# Altium integrated library Analog Devices Operational Amplifiers.IntLib: 2102 symbols (part 4 of 70)
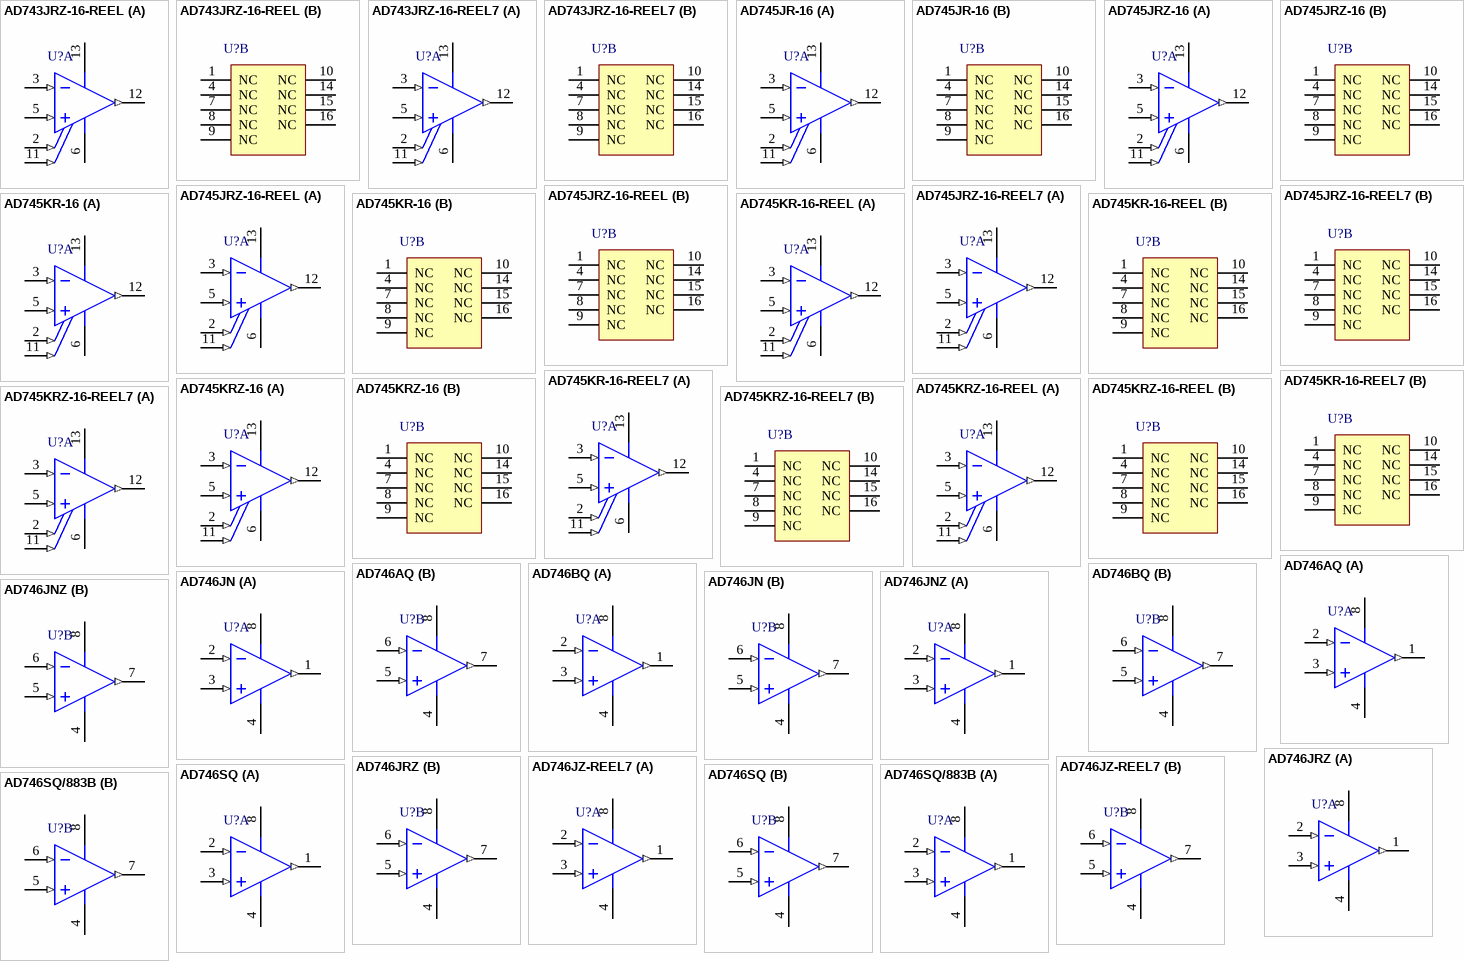
[diagram p117: symbols AD743JRZ-16-REEL to AD746SQ/883B]

## AD745KRZ-16-REEL7
designator U?
Single Channel Ultralow Noise Performance Operational Amplifier, 20 MHz BW, 12.5 V/us SR, Commercial, 16-pin SOIC (RW-16), Reel; Generic Part Number: AD745; Manufacturer: Analog Devices; PartNumber: AD745KRZ-16-REEL7; Amplifiers Per Package: 1; Input Bias Current: 150pA; Input Offset Voltage: 100uV; Iq/Amp: 10mA; Small Signal Bandwidth: 20MHz; V Span Max: 36V; V Span Min: 9.6V; DatasheetVersion: Rev. D; PackageVersion: 032707-B; PackageReference: RW-16; PackageDescription: 16-Pin Standard Small Outline Package, Body 10.3 x 7.5 mm, Pitch 1.27 mm; Supplier 1: Digi-Key; Supplier Part Number 1: AD745KRZ-16-REEL7-ND; Packing: Reel; Slew Rate: 12.5V/us; Mounting Technology: Surface Mount; Code_JEDEC: MS-013-AA; ComponentLink1Description: Manufacturer URL; ComponentLink1URL: http://www.analog.com/en/index.html; ComponentLink2Description: Datasheet; ComponentLink2URL: http://www.analog.com/static/imported-files/data_sheets/AD745.pdf; ComponentLink3Description: Package Specification; ComponentLink3URL: http://www.analog.com/static/imported-files/packages/PKG_PDF/SOIC_WIDE%20%28RW%29/RW_16.pdf
footprint ADI-RW-16_N (SOIC, 16-Leads, Body 10.3x7.5mm, Pitch 1.27mm,IPC Medium Density)
footprint ADI-RW-16_L (SOIC, 16-Leads, Body 10.3x7.5mm, Pitch 1.27mm, IPC High Density)
footprint ADI-RW-16_M (SOIC, 16-Leads, Body 10.3x7.5mm, Pitch 1.27mm, IPC Low Density)
part A pins: 2 OFFSET NULL (in), 3 -IN (in), 5 +IN (in), 6 -VS (power), 11 OFFSET NULL (in), 12 OUT (out), 13 +VS (power)
part B pins: 1 NC, 4 NC, 7 NC, 8 NC, 9 NC, 10 NC, 14 NC, 15 NC, 16 NC

## AD746AQ
designator U?
Double Channel Operational Amplifier, 13 MHz BW, 75 V/us SR, Industrial, 8-pin DIP (Q-8), Tube; Generic Part Number: AD746; Manufacturer: Analog Devices; PartNumber: AD746AQ; Amplifiers Per Package: 2; Input Bias Current: 110pA; Input Offset Voltage: 300uV; Iq/Amp: 4mA; Slew Rate: 75V/us; Small Signal Bandwidth: 13MHz; V Span Max: 36V; V Span Min: 9.6V; DatasheetVersion: Rev. B; PackageReference: Q-8; PackageDescription: 8-Pin Ceramic Dual In-Line Package, Row spacing 7.62 mm, Pitch 2.54 mm; Supplier 1: Digi-Key; Supplier Part Number 1: AD746AQ-ND; Supplier 2: Newark; Supplier Part Number 2: 66F4829; Packing: Tube; Mounting Technology: Through Hole; ComponentLink1Description: Manufacturer URL; ComponentLink1URL: http://www.analog.com/en/index.html; ComponentLink2Description: Datasheet; ComponentLink2URL: http://www.analog.com/static/imported-files/data_sheets/AD746.pdf; ComponentLink3Description: Package Specification; ComponentLink3URL: http://www.analog.com/static/imported-files/packages/3925655241313314758Q_8.pdf
footprint ADI-Q-8 (DIP, 8-Leads, Body 10.29x6.73mm, Pitch 2.54mm)
pins on every part: 4 -V (power), 8 +V (power)
part A pins: 1 OUT (out), 2 -IN (in), 3 +IN (in)
part B pins: 5 +IN (in), 6 -IN (in), 7 OUT (out)

## AD746BQ
designator U?
Double Channel Operational Amplifier, 13 MHz BW, 75 V/us SR, Industrial, 8-pin DIP (Q-8), Tube; Generic Part Number: AD746; Manufacturer: Analog Devices; PartNumber: AD746BQ; Amplifiers Per Package: 2; Input Bias Current: 110pA; Input Offset Voltage: 300uV; Iq/Amp: 4mA; Slew Rate: 75V/us; Small Signal Bandwidth: 13MHz; V Span Max: 36V; V Span Min: 9.6V; DatasheetVersion: Rev. B; PackageReference: Q-8; PackageDescription: 8-Pin Ceramic Dual In-Line Package, Row spacing 7.62 mm, Pitch 2.54 mm; Supplier 1: Digi-Key; Supplier Part Number 1: AD746BQ-ND; Packing: Tube; Mounting Technology: Through Hole; ComponentLink1Description: Manufacturer URL; ComponentLink1URL: http://www.analog.com/en/index.html; ComponentLink2Description: Datasheet; ComponentLink2URL: http://www.analog.com/static/imported-files/data_sheets/AD746.pdf; ComponentLink3Description: Package Specification; ComponentLink3URL: http://www.analog.com/static/imported-files/packages/3925655241313314758Q_8.pdf
footprint ADI-Q-8 (DIP, 8-Leads, Body 10.29x6.73mm, Pitch 2.54mm)
pins on every part: 4 -V (power), 8 +V (power)
part A pins: 1 OUT (out), 2 -IN (in), 3 +IN (in)
part B pins: 5 +IN (in), 6 -IN (in), 7 OUT (out)

## AD746JN
designator U?
Double Channel Operational Amplifier, 13 MHz BW, 75 V/us SR, Commercial, 8-pin DIP (N-8), Tube; Generic Part Number: AD746; Manufacturer: Analog Devices; PartNumber: AD746JN; Amplifiers Per Package: 2; Input Bias Current: 110pA; Input Offset Voltage: 300uV; Iq/Amp: 4mA; Slew Rate: 75V/us; Small Signal Bandwidth: 13MHz; V Span Max: 36V; V Span Min: 9.6V; DatasheetVersion: Rev. B; PackageVersion: 070606-A; PackageReference: N-8; PackageDescription: 8-Pin Plastic Dual In-Line Package, Row spacing 7.62 mm, Pitch 2.54 mm; Supplier 1: Digi-Key; Supplier Part Number 1: AD746JN-ND; Packing: Tube; Mounting Technology: Through Hole; Code_JEDEC: MS-001; ComponentLink1Description: Manufacturer URL; ComponentLink1URL: http://www.analog.com/en/index.html; ComponentLink2Description: Datasheet; ComponentLink2URL: http://www.analog.com/static/imported-files/data_sheets/AD746.pdf; ComponentLink3Description: Package Specification; ComponentLink3URL: http:/www.analog.com/static/imported-files/packages/PKG_PDF/PDIP(N)/N_8.pdf
footprint ADI-N-8 (DIP, 8-Leads, Body 9.59x6.6mm, Pitch 2.54mm)
pins on every part: 4 -V (power), 8 +V (power)
part A pins: 1 OUT (out), 2 -IN (in), 3 +IN (in)
part B pins: 5 +IN (in), 6 -IN (in), 7 OUT (out)

## AD746JNZ
designator U?
Double Channel Operational Amplifier, 13 MHz BW, 75 V/us SR, Commercial, 8-pin DIP (N-8), Tube; Generic Part Number: AD746; Manufacturer: Analog Devices; PartNumber: AD746JNZ; Amplifiers Per Package: 2; Input Bias Current: 110pA; Input Offset Voltage: 300uV; Iq/Amp: 4mA; Slew Rate: 75V/us; Small Signal Bandwidth: 13MHz; V Span Max: 36V; V Span Min: 9.6V; DatasheetVersion: Rev. B; PackageVersion: 070606-A; PackageReference: N-8; PackageDescription: 8-Pin Plastic Dual In-Line Package, Row spacing 7.62 mm, Pitch 2.54 mm; Supplier 1: Digi-Key; Supplier Part Number 1: AD746JNZ-ND; Supplier 2: Farnell; Supplier Part Number 2: 1438363; Supplier 3: Newark; Supplier Part Number 3: 59K4844; Packing: Tube; Mounting Technology: Through Hole; Code_JEDEC: MS-001; ComponentLink1Description: Manufacturer URL; ComponentLink1URL: http://www.analog.com/en/index.html; ComponentLink2Description: Datasheet; ComponentLink2URL: http://www.analog.com/static/imported-files/data_sheets/AD746.pdf; ComponentLink3Description: Package Specification; ComponentLink3URL: http:/www.analog.com/static/imported-files/packages/PKG_PDF/PDIP(N)/N_8.pdf
footprint ADI-N-8 (DIP, 8-Leads, Body 9.59x6.6mm, Pitch 2.54mm)
pins on every part: 4 -V (power), 8 +V (power)
part A pins: 1 OUT (out), 2 -IN (in), 3 +IN (in)
part B pins: 5 +IN (in), 6 -IN (in), 7 OUT (out)

## AD746JRZ
designator U?
Double Channel Operational Amplifier, 13 MHz BW, 75 V/us SR, Commercial, 8-pin SOIC (R-8), Tube; Generic Part Number: AD746; Manufacturer: Analog Devices; PartNumber: AD746JRZ; Amplifiers Per Package: 2; Input Bias Current: 110pA; Input Offset Voltage: 300uV; Iq/Amp: 4mA; Slew Rate: 75V/us; Small Signal Bandwidth: 13MHz; V Span Max: 36V; V Span Min: 9.6V; DatasheetVersion: Rev. B; PackageVersion: 060506-A; PackageReference: R-8; PackageDescription: 8-Pin Standard Small Outline Package, Body 3.9 x 4.9 mm, Pitch 1.27 mm; Supplier 1: Digi-Key; Supplier Part Number 1: AD746JRZ-ND; Supplier 2: Newark; Supplier Part Number 2: 59K4845; Packing: Tube; Mounting Technology: Surface Mount; Code_JEDEC: MS-012-AA; ComponentLink1Description: Manufacturer URL; ComponentLink1URL: http://www.analog.com/en/index.html; ComponentLink2Description: Datasheet; ComponentLink2URL: http://www.analog.com/static/imported-files/data_sheets/AD746.pdf; ComponentLink3Description: Package Specification; ComponentLink3URL: http://www.analog.com/static/imported-files/packages/PKG_PDF/SOIC_Narrow%20(R)/R_8.pdf
footprint ADI-R-8_N (SOIC, 8-Leads, Body 4.9x3.9mm, Pitch 1.27mm, IPC Medium Density)
footprint ADI-R-8_L (SOIC, 8-Leads, Body 4.9x3.9mm, Pitch 1.27mm, IPC High Density)
footprint ADI-R-8_M (SOIC, 8-Leads, Body 4.9x3.9mm, Pitch 1.27mm, IPC Low Density)
pins on every part: 4 -V (power), 8 +V (power)
part A pins: 1 OUT 1 (out), 2 -IN 1 (in), 3 +IN 1 (in)
part B pins: 5 +IN 2 (in), 6 -IN 2 (in), 7 OUT 2 (out)

## AD746JZ-REEL7
designator U?
Double Channel Operational Amplifier, 13 MHz BW, 75 V/us SR, Commercial, 8-pin SOIC (R-8), Reel; Generic Part Number: AD746; Manufacturer: Analog Devices; PartNumber: AD746JZ-REEL7; Amplifiers Per Package: 2; Input Bias Current: 110pA; Input Offset Voltage: 300uV; Iq/Amp: 4mA; Slew Rate: 75V/us; Small Signal Bandwidth: 13MHz; V Span Max: 36V; V Span Min: 9.6V; DatasheetVersion: Rev. B; PackageVersion: 060506-A; PackageReference: R-8; PackageDescription: 8-Pin Standard Small Outline Package, Body 3.9 x 4.9 mm, Pitch 1.27 mm; Packing: Reel; Mounting Technology: Surface Mount; Code_JEDEC: MS-012-AA; ComponentLink1Description: Manufacturer URL; ComponentLink1URL: http://www.analog.com/en/index.html; ComponentLink2Description: Datasheet; ComponentLink2URL: http://www.analog.com/static/imported-files/data_sheets/AD746.pdf; ComponentLink3Description: Package Specification; ComponentLink3URL: http://www.analog.com/static/imported-files/packages/PKG_PDF/SOIC_Narrow%20(R)/R_8.pdf
footprint ADI-R-8_N (SOIC, 8-Leads, Body 4.9x3.9mm, Pitch 1.27mm, IPC Medium Density)
footprint ADI-R-8_L (SOIC, 8-Leads, Body 4.9x3.9mm, Pitch 1.27mm, IPC High Density)
footprint ADI-R-8_M (SOIC, 8-Leads, Body 4.9x3.9mm, Pitch 1.27mm, IPC Low Density)
pins on every part: 4 -V (power), 8 +V (power)
part A pins: 1 OUT 1 (out), 2 -IN 1 (in), 3 +IN 1 (in)
part B pins: 5 +IN 2 (in), 6 -IN 2 (in), 7 OUT 2 (out)

## AD746SQ
designator U?
Double Channel Operational Amplifier, 13 MHz BW, 75 V/us SR, Military, 8-pin DIP (Q-8), Tube; Generic Part Number: AD746; Manufacturer: Analog Devices; PartNumber: AD746SQ; Amplifiers Per Package: 2; Input Bias Current: 110pA; Input Offset Voltage: 300uV; Iq/Amp: 4mA; Slew Rate: 75V/us; Small Signal Bandwidth: 13MHz; V Span Max: 36V; V Span Min: 9.6V; DatasheetVersion: Rev. B; PackageReference: Q-8; PackageDescription: 8-Pin Ceramic Dual In-Line Package, Row spacing 7.62 mm, Pitch 2.54 mm; Supplier 1: Digi-Key; Supplier Part Number 1: AD746SQ-ND; Supplier 2: Newark; Supplier Part Number 2: 66F4831; Packing: Tube; Mounting Technology: Through Hole; ComponentLink1Description: Manufacturer URL; ComponentLink1URL: http://www.analog.com/en/index.html; ComponentLink2Description: Datasheet; ComponentLink2URL: http://www.analog.com/static/imported-files/data_sheets/AD746.pdf; ComponentLink3Description: Package Specification; ComponentLink3URL: http://www.analog.com/static/imported-files/packages/3925655241313314758Q_8.pdf
footprint ADI-Q-8 (DIP, 8-Leads, Body 10.29x6.73mm, Pitch 2.54mm)
pins on every part: 4 -V (power), 8 +V (power)
part A pins: 1 OUT (out), 2 -IN (in), 3 +IN (in)
part B pins: 5 +IN (in), 6 -IN (in), 7 OUT (out)

## AD746SQ/883B
designator U?
Double Channel Operational Amplifier, 13 MHz BW, 75 V/us SR, Military, 8-pin DIP (Q-8), Tube; Generic Part Number: AD746; Manufacturer: Analog Devices; PartNumber: AD746SQ/883B; Amplifiers Per Package: 2; Input Bias Current: 110pA; Input Offset Voltage: 300uV; Iq/Amp: 4mA; Slew Rate: 75V/us; Small Signal Bandwidth: 13MHz; V Span Max: 36V; V Span Min: 9.6V; DatasheetVersion: Rev. B; PackageReference: Q-8; PackageDescription: 8-Pin Ceramic Dual In-Line Package, Row spacing 7.62 mm, Pitch 2.54 mm; Supplier 1: Digi-Key; Supplier Part Number 1: AD746SQ/883B-ND; Packing: Tube; Mounting Technology: Through Hole; ComponentLink1Description: Manufacturer URL; ComponentLink1URL: http://www.analog.com/en/index.html; ComponentLink2Description: Datasheet; ComponentLink2URL: http://www.analog.com/static/imported-files/data_sheets/AD746.pdf; ComponentLink3Description: Package Specification; ComponentLink3URL: http://www.analog.com/static/imported-files/packages/3925655241313314758Q_8.pdf
footprint ADI-Q-8 (DIP, 8-Leads, Body 10.29x6.73mm, Pitch 2.54mm)
pins on every part: 4 -V (power), 8 +V (power)
part A pins: 1 OUT (out), 2 -IN (in), 3 +IN (in)
part B pins: 5 +IN (in), 6 -IN (in), 7 OUT (out)

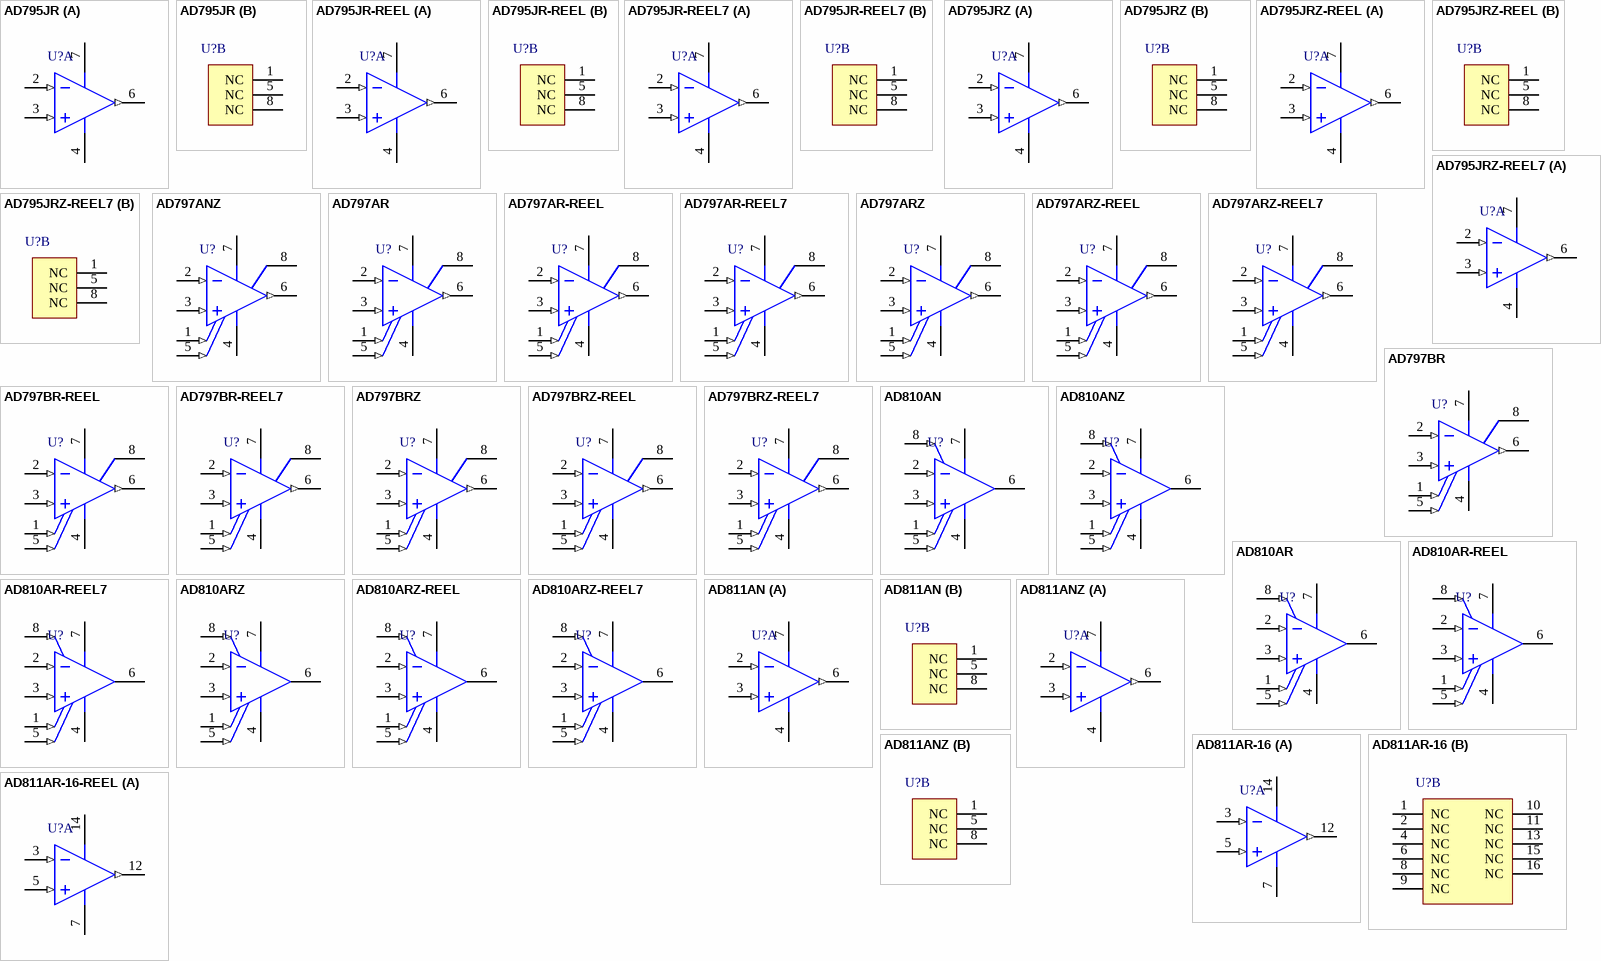
[diagram p6: symbols AD795JR to AD811AR-16-REEL]

## AD795JR
designator U?
Single Channel Low Power Replacement for Burr-Brown Operational Amplifier, 16 KHz BW, 1 V/µs SR, Commercial, 8-pin SOIC (R-8), Tube; Generic Part Number: AD795; Manufacturer: Analog Devices; PartNumber: AD795JR; Amplifiers Per Package: 1; Input Bias Current: 1pA; Input Offset Voltage: 100uV; Iq/Amp: 1.5mA; Slew Rate: 1V/us; Small Signal Bandwidth: 1.6MHz; V Span Max: 36V; V Span Min: 8V; DatasheetVersion: Rev. C; PackageVersion: 060506-A; PackageReference: R-8; PackageDescription: 8-Pin Standard Small Outline Package, Body 3.9 x 4.9 mm, Pitch 1.27 mm; Supplier 1: Digi-Key; Supplier Part Number 1: AD795JR-ND; Mounting Technology: Surface Mount; Code_JEDEC: MS-012-AA; ComponentLink1Description: Manufacturer URL; ComponentLink1URL: http://www.analog.com/en/index.html; ComponentLink2Description: Datasheet; ComponentLink2URL: http://www.analog.com/static/imported-files/data_sheets/AD795.pdf; ComponentLink3Description: Package Specification; ComponentLink3URL: http://www.analog.com/static/imported-files/packages/PKG_PDF/SOIC_Narrow%20(R)/R_8.pdf
footprint ADI-R-8_N (SOIC, 8-Leads, Body 4.9x3.9mm, Pitch 1.27mm, IPC Medium Density)
footprint ADI-R-8_L (SOIC, 8-Leads, Body 4.9x3.9mm, Pitch 1.27mm, IPC High Density)
footprint ADI-R-8_M (SOIC, 8-Leads, Body 4.9x3.9mm, Pitch 1.27mm, IPC Low Density)
part A pins: 2 -IN (in), 3 +IN (in), 4 -VS (power), 6 OUT (out), 7 +VS (power)
part B pins: 1 NC, 5 NC, 8 NC

## AD795JR-REEL
designator U?
Single Channel Low Power Replacement for Burr-Brown Operational Amplifier, 16 KHz BW, 1 V/µs SR, Commercial, 8-pin SOIC (R-8), Reel; Generic Part Number: AD795; Manufacturer: Analog Devices; PartNumber: AD795JR-REEL; Amplifiers Per Package: 1; Input Bias Current: 1pA; Input Offset Voltage: 100uV; Iq/Amp: 1.5mA; Slew Rate: 1V/us; Small Signal Bandwidth: 1.6MHz; V Span Max: 36V; V Span Min: 8V; DatasheetVersion: Rev. C; PackageVersion: 060506-A; PackageReference: R-8; PackageDescription: 8-Pin Standard Small Outline Package, Body 3.9 x 4.9 mm, Pitch 1.27 mm; Supplier 1: Digi-Key; Supplier Part Number 1: AD795JR-REEL-ND; Supplier 2: Newark; Supplier Part Number 2: 09B6318; Mounting Technology: Surface Mount; Code_JEDEC: MS-012-AA; ComponentLink1Description: Manufacturer URL; ComponentLink1URL: http://www.analog.com/en/index.html; ComponentLink2Description: Datasheet; ComponentLink2URL: http://www.analog.com/static/imported-files/data_sheets/AD795.pdf; ComponentLink3Description: Package Specification; ComponentLink3URL: http://www.analog.com/static/imported-files/packages/PKG_PDF/SOIC_Narrow%20(R)/R_8.pdf
footprint ADI-R-8_N (SOIC, 8-Leads, Body 4.9x3.9mm, Pitch 1.27mm, IPC Medium Density)
footprint ADI-R-8_L (SOIC, 8-Leads, Body 4.9x3.9mm, Pitch 1.27mm, IPC High Density)
footprint ADI-R-8_M (SOIC, 8-Leads, Body 4.9x3.9mm, Pitch 1.27mm, IPC Low Density)
part A pins: 2 -IN (in), 3 +IN (in), 4 -VS (power), 6 OUT (out), 7 +VS (power)
part B pins: 1 NC, 5 NC, 8 NC

## AD795JR-REEL7
designator U?
Single Channel Low Cost Operational Amplifier, 1.6 MHz BW, 1 V/us SR, Commercial, 8-pin SOIC (R-8), Reel; Generic Part Number: AD795; Manufacturer: Analog Devices; PartNumber: AD795JR-REEL7; Amplifiers Per Package: 1; Input Bias Current: 1pA; Input Offset Voltage: 100uV; Iq/Amp: 1.5mA; Slew Rate: 1V/us; Small Signal Bandwidth: 1.6MHz; V Span Max: 36V; V Span Min: 8V; DatasheetVersion: Rev. C; PackageVersion: 060506-A; PackageReference: R-8; PackageDescription: 8-Pin Standard Small Outline Package, Body 3.9 x 4.9 mm, Pitch 1.27 mm; Supplier 1: Digi-Key; Supplier Part Number 1: AD795JR-REEL7-ND; Mounting Technology: Surface Mount; Code_JEDEC: MS-012-AA; ComponentLink1Description: Manufacturer URL; ComponentLink1URL: http://www.analog.com/en/index.html; ComponentLink2Description: Datasheet; ComponentLink2URL: http://www.analog.com/static/imported-files/data_sheets/AD795.pdf; ComponentLink3Description: Package Specification; ComponentLink3URL: http://www.analog.com/static/imported-files/packages/PKG_PDF/SOIC_Narrow%20(R)/R_8.pdf
footprint ADI-R-8_N (SOIC, 8-Leads, Body 4.9x3.9mm, Pitch 1.27mm, IPC Medium Density)
footprint ADI-R-8_L (SOIC, 8-Leads, Body 4.9x3.9mm, Pitch 1.27mm, IPC High Density)
footprint ADI-R-8_M (SOIC, 8-Leads, Body 4.9x3.9mm, Pitch 1.27mm, IPC Low Density)
part A pins: 2 -IN (in), 3 +IN (in), 4 -VS (power), 6 OUT (out), 7 +VS (power)
part B pins: 1 NC, 5 NC, 8 NC

## AD795JRZ
designator U?
Single Channel Low Power Replacement for Burr-Brown Operational Amplifier, 16 KHz BW, 1 V/µs SR, Commercial, 8-pin SOIC (R-8), Tube; Generic Part Number: AD795; Manufacturer: Analog Devices; PartNumber: AD795JRZ; Amplifiers Per Package: 1; Input Bias Current: 1pA; Input Offset Voltage: 100uV; Iq/Amp: 1.5mA; Slew Rate: 1V/us; Small Signal Bandwidth: 1.6MHz; V Span Max: 36V; V Span Min: 8V; DatasheetVersion: Rev. C; PackageVersion: 060506-A; PackageReference: R-8; PackageDescription: 8-Pin Standard Small Outline Package, Body 3.9 x 4.9 mm, Pitch 1.27 mm; Supplier 1: Digi-Key; Supplier Part Number 1: AD795JRZ-ND; Supplier 2: Farnell; Supplier Part Number 2: 1651296; Supplier 3: Farnell; Supplier Part Number 3: 1311343; Supplier 4: Newark; Supplier Part Number 4: 59K6085; Mounting Technology: Surface Mount; Code_JEDEC: MS-012-AA; ComponentLink1Description: Manufacturer URL; ComponentLink1URL: http://www.analog.com/en/index.html; ComponentLink2Description: Datasheet; ComponentLink2URL: http://www.analog.com/static/imported-files/data_sheets/AD795.pdf; ComponentLink3Description: Package Specification; ComponentLink3URL: http://www.analog.com/static/imported-files/packages/PKG_PDF/SOIC_Narrow%20(R)/R_8.pdf
footprint ADI-R-8_N (SOIC, 8-Leads, Body 4.9x3.9mm, Pitch 1.27mm, IPC Medium Density)
footprint ADI-R-8_L (SOIC, 8-Leads, Body 4.9x3.9mm, Pitch 1.27mm, IPC High Density)
footprint ADI-R-8_M (SOIC, 8-Leads, Body 4.9x3.9mm, Pitch 1.27mm, IPC Low Density)
part A pins: 2 -IN (in), 3 +IN (in), 4 -VS (power), 6 OUT (out), 7 +VS (power)
part B pins: 1 NC, 5 NC, 8 NC

## AD795JRZ-REEL
designator U?
Single Channel Low Power Replacement for Burr-Brown Operational Amplifier, 16 KHz BW, 1 V/µs SR, Commercial, 8-pin SOIC (R-8), Reel; Generic Part Number: AD795; Manufacturer: Analog Devices; PartNumber: AD795JRZ-REEL; Amplifiers Per Package: 1; Input Bias Current: 1pA; Input Offset Voltage: 100uV; Iq/Amp: 1.5mA; Slew Rate: 1V/us; Small Signal Bandwidth: 1.6MHz; V Span Max: 36V; V Span Min: 8V; DatasheetVersion: Rev. C; PackageVersion: 060506-A; PackageReference: R-8; PackageDescription: 8-Pin Standard Small Outline Package, Body 3.9 x 4.9 mm, Pitch 1.27 mm; Supplier 1: Digi-Key; Supplier Part Number 1: AD795JRZ-REEL-ND; Mounting Technology: Surface Mount; Code_JEDEC: MS-012-AA; ComponentLink1Description: Manufacturer URL; ComponentLink1URL: http://www.analog.com/en/index.html; ComponentLink2Description: Datasheet; ComponentLink2URL: http://www.analog.com/static/imported-files/data_sheets/AD795.pdf; ComponentLink3Description: Package Specification; ComponentLink3URL: http://www.analog.com/static/imported-files/packages/PKG_PDF/SOIC_Narrow%20(R)/R_8.pdf
footprint ADI-R-8_N (SOIC, 8-Leads, Body 4.9x3.9mm, Pitch 1.27mm, IPC Medium Density)
footprint ADI-R-8_L (SOIC, 8-Leads, Body 4.9x3.9mm, Pitch 1.27mm, IPC High Density)
footprint ADI-R-8_M (SOIC, 8-Leads, Body 4.9x3.9mm, Pitch 1.27mm, IPC Low Density)
part A pins: 2 -IN (in), 3 +IN (in), 4 -VS (power), 6 OUT (out), 7 +VS (power)
part B pins: 1 NC, 5 NC, 8 NC

## AD795JRZ-REEL7
designator U?
Single Channel Low Power Replacement for Burr-Brown Operational Amplifier, 16 KHz BW, 1 V/µs SR, Commercial, 8-pin SOIC (R-8), Reel; Generic Part Number: AD795; Manufacturer: Analog Devices; PartNumber: AD795JRZ-REEL7; Amplifiers Per Package: 1; Input Bias Current: 1pA; Input Offset Voltage: 100uV; Iq/Amp: 1.5mA; Slew Rate: 1V/us; Small Signal Bandwidth: 1.6MHz; V Span Max: 36V; V Span Min: 8V; DatasheetVersion: Rev. C; PackageVersion: 060506-A; PackageReference: R-8; PackageDescription: 8-Pin Standard Small Outline Package, Body 3.9 x 4.9 mm, Pitch 1.27 mm; Supplier 1: Digi-Key; Supplier Part Number 1: AD795JRZ-REEL7-ND; Mounting Technology: Surface Mount; Code_JEDEC: MS-012-AA; ComponentLink1Description: Manufacturer URL; ComponentLink1URL: http://www.analog.com/en/index.html; ComponentLink2Description: Datasheet; ComponentLink2URL: http://www.analog.com/static/imported-files/data_sheets/AD795.pdf; ComponentLink3Description: Package Specification; ComponentLink3URL: http://www.analog.com/static/imported-files/packages/PKG_PDF/SOIC_Narrow%20(R)/R_8.pdf
footprint ADI-R-8_N (SOIC, 8-Leads, Body 4.9x3.9mm, Pitch 1.27mm, IPC Medium Density)
footprint ADI-R-8_L (SOIC, 8-Leads, Body 4.9x3.9mm, Pitch 1.27mm, IPC High Density)
footprint ADI-R-8_M (SOIC, 8-Leads, Body 4.9x3.9mm, Pitch 1.27mm, IPC Low Density)
part A pins: 2 -IN (in), 3 +IN (in), 4 -VS (power), 6 OUT (out), 7 +VS (power)
part B pins: 1 NC, 5 NC, 8 NC

## AD797ANZ
designator U?
Single Channel Low Noise Operational Amplifier, 8 MHz BW, 20 V/us SR, Industrial, 8-pin DIP (N-8), Tube; Generic Part Number: AD797; Manufacturer: Analog Devices; PartNumber: AD797ANZ; Amplifiers Per Package: 1; Input Bias Current: 250nA; Input Offset Voltage: 25uV; Iq/Amp: 10.5mA; Slew Rate: 20V/us; Small Signal Bandwidth: 8MHz; V Span Max: 36V; V Span Min: 10V; DatasheetVersion: Rev. H; PackageVersion: 070606-A; PackageReference: N-8; PackageDescription: 8-Pin Plastic Dual In-Line Package, Row spacing 7.62 mm, Pitch 2.54 mm; Supplier 1: Digi-Key; Supplier Part Number 1: AD797ANZ-ND; Supplier 2: Farnell; Supplier Part Number 2: 1523883; Supplier 3: Farnell; Supplier Part Number 3: 9603778; Supplier 4: Newark; Supplier Part Number 4: 59K6088; Mounting Technology: Through Hole; Code_JEDEC: MS-001; ComponentLink1Description: Manufacturer URL; ComponentLink1URL: http://www.analog.com/en/index.html; ComponentLink2Description: Datasheet; ComponentLink2URL: http://www.analog.com/static/imported-files/data_sheets/AD797.pdf; ComponentLink3Description: Package Specification; ComponentLink3URL: http:/www.analog.com/static/imported-files/packages/PKG_PDF/PDIP(N)/N_8.pdf
footprint ADI-N-8 (DIP, 8-Leads, Body 9.59x6.6mm, Pitch 2.54mm)
pins: 1 OFFSET NULL (in), 2 -IN (in), 3 +IN (in), 4 -VS (power), 5 OFFSET NULL (in), 6 OUT (out), 7 +VS (power), 8 DECOMPENSATION AND DISTORTION NEUTRALIZATION

## AD797AR
designator U?
Single Channel Low Noise Operational Amplifier, 8 MHz BW, 20 V/us SR, Industrial, 8-pin SOIC (R-8), Tube; Generic Part Number: AD797; Manufacturer: Analog Devices; PartNumber: AD797AR; Amplifiers Per Package: 1; Input Bias Current: 250nA; Input Offset Voltage: 25uV; Iq/Amp: 10.5mA; Slew Rate: 20V/us; Small Signal Bandwidth: 8MHz; V Span Max: 36V; V Span Min: 10V; DatasheetVersion: Rev. H; PackageVersion: 060506-A; PackageReference: R-8; PackageDescription: 8-Pin Standard Small Outline Package, Body 3.9 x 4.9 mm, Pitch 1.27 mm; Supplier 1: Digi-Key; Supplier Part Number 1: AD797AR-ND; Mounting Technology: Surface Mount; Code_JEDEC: MS-012-AA; ComponentLink1Description: Manufacturer URL; ComponentLink1URL: http://www.analog.com/en/index.html; ComponentLink2Description: Datasheet; ComponentLink2URL: http://www.analog.com/static/imported-files/data_sheets/AD797.pdf; ComponentLink3Description: Package Specification; ComponentLink3URL: http://www.analog.com/static/imported-files/packages/PKG_PDF/SOIC_Narrow%20(R)/R_8.pdf
footprint ADI-R-8_N (SOIC, 8-Leads, Body 4.9x3.9mm, Pitch 1.27mm, IPC Medium Density)
footprint ADI-R-8_L (SOIC, 8-Leads, Body 4.9x3.9mm, Pitch 1.27mm, IPC High Density)
footprint ADI-R-8_M (SOIC, 8-Leads, Body 4.9x3.9mm, Pitch 1.27mm, IPC Low Density)
pins: 1 OFFSET NULL (in), 2 -IN (in), 3 +IN (in), 4 -VS (power), 5 OFFSET NULL (in), 6 OUT (out), 7 +VS (power), 8 DECOMPENSATION AND DISTORTION NEUTRALIZATION

## AD797AR-REEL
designator U?
Single Channel Low Noise Operational Amplifier, 8 MHz BW, 20 V/us SR, Industrial, 8-pin SOIC (R-8), Reel; Generic Part Number: AD797; Manufacturer: Analog Devices; PartNumber: AD797AR-REEL; Amplifiers Per Package: 1; Input Bias Current: 250nA; Input Offset Voltage: 25uV; Iq/Amp: 10.5mA; Slew Rate: 20V/us; Small Signal Bandwidth: 8MHz; V Span Max: 36V; V Span Min: 10V; DatasheetVersion: Rev. H; PackageVersion: 060506-A; PackageReference: R-8; PackageDescription: 8-Pin Standard Small Outline Package, Body 3.9 x 4.9 mm, Pitch 1.27 mm; Supplier 1: Digi-Key; Supplier Part Number 1: AD797AR-REEL-ND; Supplier 2: Newark; Supplier Part Number 2: 09B6320; Mounting Technology: Surface Mount; Code_JEDEC: MS-012-AA; ComponentLink1Description: Manufacturer URL; ComponentLink1URL: http://www.analog.com/en/index.html; ComponentLink2Description: Datasheet; ComponentLink2URL: http://www.analog.com/static/imported-files/data_sheets/AD797.pdf; ComponentLink3Description: Package Specification; ComponentLink3URL: http://www.analog.com/static/imported-files/packages/PKG_PDF/SOIC_Narrow%20(R)/R_8.pdf
footprint ADI-R-8_N (SOIC, 8-Leads, Body 4.9x3.9mm, Pitch 1.27mm, IPC Medium Density)
footprint ADI-R-8_L (SOIC, 8-Leads, Body 4.9x3.9mm, Pitch 1.27mm, IPC High Density)
footprint ADI-R-8_M (SOIC, 8-Leads, Body 4.9x3.9mm, Pitch 1.27mm, IPC Low Density)
pins: 1 OFFSET NULL (in), 2 -IN (in), 3 +IN (in), 4 -VS (power), 5 OFFSET NULL (in), 6 OUT (out), 7 +VS (power), 8 DECOMPENSATION AND DISTORTION NEUTRALIZATION

## AD797AR-REEL7
designator U?
Single Channel Low Noise Operational Amplifier, 8 MHz BW, 20 V/us SR, Industrial, 8-pin SOIC (R-8), Reel; Generic Part Number: AD797; Manufacturer: Analog Devices; PartNumber: AD797AR-REEL7; Amplifiers Per Package: 1; Input Bias Current: 250nA; Input Offset Voltage: 25uV; Iq/Amp: 10.5mA; Slew Rate: 20V/us; Small Signal Bandwidth: 8MHz; V Span Max: 36V; V Span Min: 10V; DatasheetVersion: Rev. H; PackageVersion: 060506-A; PackageReference: R-8; PackageDescription: 8-Pin Standard Small Outline Package, Body 3.9 x 4.9 mm, Pitch 1.27 mm; Supplier 1: Digi-Key; Supplier Part Number 1: AD797AR-REEL7-ND; Supplier 2: Newark; Supplier Part Number 2: 09B6321; Mounting Technology: Surface Mount; Code_JEDEC: MS-012-AA; ComponentLink1Description: Manufacturer URL; ComponentLink1URL: http://www.analog.com/en/index.html; ComponentLink2Description: Datasheet; ComponentLink2URL: http://www.analog.com/static/imported-files/data_sheets/AD797.pdf; ComponentLink3Description: Package Specification; ComponentLink3URL: http://www.analog.com/static/imported-files/packages/PKG_PDF/SOIC_Narrow%20(R)/R_8.pdf
footprint ADI-R-8_N (SOIC, 8-Leads, Body 4.9x3.9mm, Pitch 1.27mm, IPC Medium Density)
footprint ADI-R-8_L (SOIC, 8-Leads, Body 4.9x3.9mm, Pitch 1.27mm, IPC High Density)
footprint ADI-R-8_M (SOIC, 8-Leads, Body 4.9x3.9mm, Pitch 1.27mm, IPC Low Density)
pins: 1 OFFSET NULL (in), 2 -IN (in), 3 +IN (in), 4 -VS (power), 5 OFFSET NULL (in), 6 OUT (out), 7 +VS (power), 8 DECOMPENSATION AND DISTORTION NEUTRALIZATION

## AD797ARZ
designator U?
Single Channel Low Noise Operational Amplifier, 8 MHz BW, 20 V/us SR, Industrial, 8-pin SOIC (R-8), Tube; Generic Part Number: AD797; Manufacturer: Analog Devices; PartNumber: AD797ARZ; Amplifiers Per Package: 1; Input Bias Current: 250nA; Input Offset Voltage: 25uV; Iq/Amp: 10.5mA; Slew Rate: 20V/us; Small Signal Bandwidth: 8MHz; V Span Max: 36V; V Span Min: 10V; DatasheetVersion: Rev. H; PackageVersion: 060506-A; PackageReference: R-8; PackageDescription: 8-Pin Standard Small Outline Package, Body 3.9 x 4.9 mm, Pitch 1.27 mm; Supplier 1: Digi-Key; Supplier Part Number 1: AD797ARZ-ND; Supplier 2: Farnell; Supplier Part Number 2: 9426450; Supplier 3: Newark; Supplier Part Number 3: 88H0085; Mounting Technology: Surface Mount; Code_JEDEC: MS-012-AA; ComponentLink1Description: Manufacturer URL; ComponentLink1URL: http://www.analog.com/en/index.html; ComponentLink2Description: Datasheet; ComponentLink2URL: http://www.analog.com/static/imported-files/data_sheets/AD797.pdf; ComponentLink3Description: Package Specification; ComponentLink3URL: http://www.analog.com/static/imported-files/packages/PKG_PDF/SOIC_Narrow%20(R)/R_8.pdf
footprint ADI-R-8_N (SOIC, 8-Leads, Body 4.9x3.9mm, Pitch 1.27mm, IPC Medium Density)
footprint ADI-R-8_L (SOIC, 8-Leads, Body 4.9x3.9mm, Pitch 1.27mm, IPC High Density)
footprint ADI-R-8_M (SOIC, 8-Leads, Body 4.9x3.9mm, Pitch 1.27mm, IPC Low Density)
pins: 1 OFFSET NULL (in), 2 -IN (in), 3 +IN (in), 4 -VS (power), 5 OFFSET NULL (in), 6 OUT (out), 7 +VS (power), 8 DECOMPENSATION AND DISTORTION NEUTRALIZATION

## AD797ARZ-REEL
designator U?
Single Channel Low Noise Operational Amplifier, 8 MHz BW, 20 V/us SR, Industrial, 8-pin SOIC (R-8), Reel; Generic Part Number: AD797; Manufacturer: Analog Devices; PartNumber: AD797ARZ-REEL; Amplifiers Per Package: 1; Input Bias Current: 250nA; Input Offset Voltage: 25uV; Iq/Amp: 10.5mA; Slew Rate: 20V/us; Small Signal Bandwidth: 8MHz; V Span Max: 36V; V Span Min: 10V; DatasheetVersion: Rev. H; PackageVersion: 060506-A; PackageReference: R-8; PackageDescription: 8-Pin Standard Small Outline Package, Body 3.9 x 4.9 mm, Pitch 1.27 mm; Supplier 1: Digi-Key; Supplier Part Number 1: AD797ARZ-REEL-ND; Supplier 2: Newark; Supplier Part Number 2: 88H0086; Mounting Technology: Surface Mount; Code_JEDEC: MS-012-AA; ComponentLink1Description: Manufacturer URL; ComponentLink1URL: http://www.analog.com/en/index.html; ComponentLink2Description: Datasheet; ComponentLink2URL: http://www.analog.com/static/imported-files/data_sheets/AD797.pdf; ComponentLink3Description: Package Specification; ComponentLink3URL: http://www.analog.com/static/imported-files/packages/PKG_PDF/SOIC_Narrow%20(R)/R_8.pdf
footprint ADI-R-8_N (SOIC, 8-Leads, Body 4.9x3.9mm, Pitch 1.27mm, IPC Medium Density)
footprint ADI-R-8_L (SOIC, 8-Leads, Body 4.9x3.9mm, Pitch 1.27mm, IPC High Density)
footprint ADI-R-8_M (SOIC, 8-Leads, Body 4.9x3.9mm, Pitch 1.27mm, IPC Low Density)
pins: 1 OFFSET NULL (in), 2 -IN (in), 3 +IN (in), 4 -VS (power), 5 OFFSET NULL (in), 6 OUT (out), 7 +VS (power), 8 DECOMPENSATION AND DISTORTION NEUTRALIZATION

## AD797ARZ-REEL7
designator U?
Single Channel Low Noise Operational Amplifier, 8 MHz BW, 20 V/us SR, Industrial, 8-pin SOIC (R-8), Reel; Generic Part Number: AD797; Manufacturer: Analog Devices; PartNumber: AD797ARZ-REEL7; Amplifiers Per Package: 1; Input Bias Current: 250nA; Input Offset Voltage: 25uV; Iq/Amp: 10.5mA; Slew Rate: 20V/us; Small Signal Bandwidth: 8MHz; V Span Max: 36V; V Span Min: 10V; DatasheetVersion: Rev. H; PackageVersion: 060506-A; PackageReference: R-8; PackageDescription: 8-Pin Standard Small Outline Package, Body 3.9 x 4.9 mm, Pitch 1.27 mm; Supplier 1: Digi-Key; Supplier Part Number 1: AD797ARZ-REEL7TR-ND; Supplier 2: Digi-Key; Supplier Part Number 2: AD797ARZ-REEL7CT-ND; Supplier 3: Digi-Key; Supplier Part Number 3: AD797ARZ-REEL7DKR-ND; Supplier 4: Newark; Supplier Part Number 4: 88H0087; Mounting Technology: Surface Mount; Code_JEDEC: MS-012-AA; ComponentLink1Description: Manufacturer URL; ComponentLink1URL: http://www.analog.com/en/index.html; ComponentLink2Description: Datasheet; ComponentLink2URL: http://www.analog.com/static/imported-files/data_sheets/AD797.pdf; ComponentLink3Description: Package Specification; ComponentLink3URL: http://www.analog.com/static/imported-files/packages/PKG_PDF/SOIC_Narrow%20(R)/R_8.pdf
footprint ADI-R-8_N (SOIC, 8-Leads, Body 4.9x3.9mm, Pitch 1.27mm, IPC Medium Density)
footprint ADI-R-8_L (SOIC, 8-Leads, Body 4.9x3.9mm, Pitch 1.27mm, IPC High Density)
footprint ADI-R-8_M (SOIC, 8-Leads, Body 4.9x3.9mm, Pitch 1.27mm, IPC Low Density)
pins: 1 OFFSET NULL (in), 2 -IN (in), 3 +IN (in), 4 -VS (power), 5 OFFSET NULL (in), 6 OUT (out), 7 +VS (power), 8 DECOMPENSATION AND DISTORTION NEUTRALIZATION

## AD797BR
designator U?
Single Channel Low Noise Operational Amplifier, 8 MHz BW, 20 V/us SR, Industrial, 8-pin SOIC (R-8), Tube; Generic Part Number: AD797; Manufacturer: Analog Devices; PartNumber: AD797BR; Amplifiers Per Package: 1; Input Bias Current: 250nA; Input Offset Voltage: 25uV; Iq/Amp: 10.5mA; Slew Rate: 20V/us; Small Signal Bandwidth: 8MHz; V Span Max: 36V; V Span Min: 10V; DatasheetVersion: Rev. H; PackageVersion: 060506-A; PackageReference: R-8; PackageDescription: 8-Pin Standard Small Outline Package, Body 3.9 x 4.9 mm, Pitch 1.27 mm; Supplier 1: Digi-Key; Supplier Part Number 1: AD797BR-ND; Mounting Technology: Surface Mount; Code_JEDEC: MS-012-AA; ComponentLink1Description: Manufacturer URL; ComponentLink1URL: http://www.analog.com/en/index.html; ComponentLink2Description: Datasheet; ComponentLink2URL: http://www.analog.com/static/imported-files/data_sheets/AD797.pdf; ComponentLink3Description: Package Specification; ComponentLink3URL: http://www.analog.com/static/imported-files/packages/PKG_PDF/SOIC_Narrow%20(R)/R_8.pdf
footprint ADI-R-8_N (SOIC, 8-Leads, Body 4.9x3.9mm, Pitch 1.27mm, IPC Medium Density)
footprint ADI-R-8_L (SOIC, 8-Leads, Body 4.9x3.9mm, Pitch 1.27mm, IPC High Density)
footprint ADI-R-8_M (SOIC, 8-Leads, Body 4.9x3.9mm, Pitch 1.27mm, IPC Low Density)
pins: 1 OFFSET NULL (in), 2 -IN (in), 3 +IN (in), 4 -VS (power), 5 OFFSET NULL (in), 6 OUT (out), 7 +VS (power), 8 DECOMPENSATION AND DISTORTION NEUTRALIZATION

## AD797BR-REEL
designator U?
Single Channel Low Noise Operational Amplifier, 8 MHz BW, 20 V/us SR, Industrial, 8-pin SOIC (R-8), Reel; Generic Part Number: AD797; Manufacturer: Analog Devices; PartNumber: AD797BR-REEL; Amplifiers Per Package: 1; Input Bias Current: 250nA; Input Offset Voltage: 25uV; Iq/Amp: 10.5mA; Slew Rate: 20V/us; Small Signal Bandwidth: 8MHz; V Span Max: 36V; V Span Min: 10V; DatasheetVersion: Rev. H; PackageVersion: 060506-A; PackageReference: R-8; PackageDescription: 8-Pin Standard Small Outline Package, Body 3.9 x 4.9 mm, Pitch 1.27 mm; Supplier 1: Digi-Key; Supplier Part Number 1: AD797BR-REEL-ND; Supplier 2: Newark; Supplier Part Number 2: 09B6322; Mounting Technology: Surface Mount; Code_JEDEC: MS-012-AA; ComponentLink1Description: Manufacturer URL; ComponentLink1URL: http://www.analog.com/en/index.html; ComponentLink2Description: Datasheet; ComponentLink2URL: http://www.analog.com/static/imported-files/data_sheets/AD797.pdf; ComponentLink3Description: Package Specification; ComponentLink3URL: http://www.analog.com/static/imported-files/packages/PKG_PDF/SOIC_Narrow%20(R)/R_8.pdf
footprint ADI-R-8_N (SOIC, 8-Leads, Body 4.9x3.9mm, Pitch 1.27mm, IPC Medium Density)
footprint ADI-R-8_L (SOIC, 8-Leads, Body 4.9x3.9mm, Pitch 1.27mm, IPC High Density)
footprint ADI-R-8_M (SOIC, 8-Leads, Body 4.9x3.9mm, Pitch 1.27mm, IPC Low Density)
pins: 1 OFFSET NULL (in), 2 -IN (in), 3 +IN (in), 4 -VS (power), 5 OFFSET NULL (in), 6 OUT (out), 7 +VS (power), 8 DECOMPENSATION AND DISTORTION NEUTRALIZATION

## AD797BR-REEL7
designator U?
Single Channel Low Noise Operational Amplifier, 8 MHz BW, 20 V/us SR, Industrial, 8-pin SOIC (R-8), Reel; Generic Part Number: AD797; Manufacturer: Analog Devices; PartNumber: AD797BR-REEL7; Amplifiers Per Package: 1; Input Bias Current: 250nA; Input Offset Voltage: 25uV; Iq/Amp: 10.5mA; Slew Rate: 20V/us; Small Signal Bandwidth: 8MHz; V Span Max: 36V; V Span Min: 10V; DatasheetVersion: Rev. H; PackageVersion: 060506-A; PackageReference: R-8; PackageDescription: 8-Pin Standard Small Outline Package, Body 3.9 x 4.9 mm, Pitch 1.27 mm; Supplier 1: Digi-Key; Supplier Part Number 1: AD797BR-REEL7-ND; Mounting Technology: Surface Mount; Code_JEDEC: MS-012-AA; ComponentLink1Description: Manufacturer URL; ComponentLink1URL: http://www.analog.com/en/index.html; ComponentLink2Description: Datasheet; ComponentLink2URL: http://www.analog.com/static/imported-files/data_sheets/AD797.pdf; ComponentLink3Description: Package Specification; ComponentLink3URL: http://www.analog.com/static/imported-files/packages/PKG_PDF/SOIC_Narrow%20(R)/R_8.pdf
footprint ADI-R-8_N (SOIC, 8-Leads, Body 4.9x3.9mm, Pitch 1.27mm, IPC Medium Density)
footprint ADI-R-8_L (SOIC, 8-Leads, Body 4.9x3.9mm, Pitch 1.27mm, IPC High Density)
footprint ADI-R-8_M (SOIC, 8-Leads, Body 4.9x3.9mm, Pitch 1.27mm, IPC Low Density)
pins: 1 OFFSET NULL (in), 2 -IN (in), 3 +IN (in), 4 -VS (power), 5 OFFSET NULL (in), 6 OUT (out), 7 +VS (power), 8 DECOMPENSATION AND DISTORTION NEUTRALIZATION

## AD797BRZ
designator U?
Single Channel Low Noise Operational Amplifier, 8 MHz BW, 20 V/us SR, Industrial, 8-pin SOIC (R-8), Tube; Generic Part Number: AD797; Manufacturer: Analog Devices; PartNumber: AD797BRZ; Amplifiers Per Package: 1; Input Bias Current: 250nA; Input Offset Voltage: 25uV; Iq/Amp: 10.5mA; Slew Rate: 20V/us; Small Signal Bandwidth: 8MHz; V Span Max: 36V; V Span Min: 10V; DatasheetVersion: Rev. H; PackageVersion: 060506-A; PackageReference: R-8; PackageDescription: 8-Pin Standard Small Outline Package, Body 3.9 x 4.9 mm, Pitch 1.27 mm; Supplier 1: Digi-Key; Supplier Part Number 1: AD797BRZ-ND; Supplier 2: Farnell; Supplier Part Number 2: 1651308; Supplier 3: Farnell; Supplier Part Number 3: 1311727; Supplier 4: Newark; Supplier Part Number 4: 88H0088; Mounting Technology: Surface Mount; Code_JEDEC: MS-012-AA; ComponentLink1Description: Manufacturer URL; ComponentLink1URL: http://www.analog.com/en/index.html; ComponentLink2Description: Datasheet; ComponentLink2URL: http://www.analog.com/static/imported-files/data_sheets/AD797.pdf; ComponentLink3Description: Package Specification; ComponentLink3URL: http://www.analog.com/static/imported-files/packages/PKG_PDF/SOIC_Narrow%20(R)/R_8.pdf
footprint ADI-R-8_N (SOIC, 8-Leads, Body 4.9x3.9mm, Pitch 1.27mm, IPC Medium Density)
footprint ADI-R-8_L (SOIC, 8-Leads, Body 4.9x3.9mm, Pitch 1.27mm, IPC High Density)
footprint ADI-R-8_M (SOIC, 8-Leads, Body 4.9x3.9mm, Pitch 1.27mm, IPC Low Density)
pins: 1 OFFSET NULL (in), 2 -IN (in), 3 +IN (in), 4 -VS (power), 5 OFFSET NULL (in), 6 OUT (out), 7 +VS (power), 8 DECOMPENSATION AND DISTORTION NEUTRALIZATION

## AD797BRZ-REEL
designator U?
Single Channel Low Noise Operational Amplifier, 8 MHz BW, 20 V/us SR, Industrial, 8-pin SOIC (R-8), Reel; Generic Part Number: AD797; Manufacturer: Analog Devices; PartNumber: AD797BRZ-REEL; Amplifiers Per Package: 1; Input Bias Current: 250nA; Input Offset Voltage: 25uV; Iq/Amp: 10.5mA; Slew Rate: 20V/us; Small Signal Bandwidth: 8MHz; V Span Max: 36V; V Span Min: 10V; DatasheetVersion: Rev. H; PackageVersion: 060506-A; PackageReference: R-8; PackageDescription: 8-Pin Standard Small Outline Package, Body 3.9 x 4.9 mm, Pitch 1.27 mm; Supplier 1: Digi-Key; Supplier Part Number 1: AD797BRZ-REEL-ND; Mounting Technology: Surface Mount; Code_JEDEC: MS-012-AA; ComponentLink1Description: Manufacturer URL; ComponentLink1URL: http://www.analog.com/en/index.html; ComponentLink2Description: Datasheet; ComponentLink2URL: http://www.analog.com/static/imported-files/data_sheets/AD797.pdf; ComponentLink3Description: Package Specification; ComponentLink3URL: http://www.analog.com/static/imported-files/packages/PKG_PDF/SOIC_Narrow%20(R)/R_8.pdf
footprint ADI-R-8_N (SOIC, 8-Leads, Body 4.9x3.9mm, Pitch 1.27mm, IPC Medium Density)
footprint ADI-R-8_L (SOIC, 8-Leads, Body 4.9x3.9mm, Pitch 1.27mm, IPC High Density)
footprint ADI-R-8_M (SOIC, 8-Leads, Body 4.9x3.9mm, Pitch 1.27mm, IPC Low Density)
pins: 1 OFFSET NULL (in), 2 -IN (in), 3 +IN (in), 4 -VS (power), 5 OFFSET NULL (in), 6 OUT (out), 7 +VS (power), 8 DECOMPENSATION AND DISTORTION NEUTRALIZATION

## AD797BRZ-REEL7
designator U?
Single Channel Low Noise Operational Amplifier, 8 MHz BW, 20 V/us SR, Industrial, 8-pin SOIC (R-8), Reel; Generic Part Number: AD797; Manufacturer: Analog Devices; PartNumber: AD797BRZ-REEL7; Amplifiers Per Package: 1; Input Bias Current: 250nA; Input Offset Voltage: 25uV; Iq/Amp: 10.5mA; Slew Rate: 20V/us; Small Signal Bandwidth: 8MHz; V Span Max: 36V; V Span Min: 10V; DatasheetVersion: Rev. H; PackageVersion: 060506-A; PackageReference: R-8; PackageDescription: 8-Pin Standard Small Outline Package, Body 3.9 x 4.9 mm, Pitch 1.27 mm; Supplier 1: Digi-Key; Supplier Part Number 1: AD797BRZ-REEL7TR-ND; Supplier 2: Digi-Key; Supplier Part Number 2: AD797BRZ-REEL7CT-ND; Supplier 3: Digi-Key; Supplier Part Number 3: AD797BRZ-REEL7DKR-ND; Supplier 4: Newark; Supplier Part Number 4: 88H0090; Mounting Technology: Surface Mount; Code_JEDEC: MS-012-AA; ComponentLink1Description: Manufacturer URL; ComponentLink1URL: http://www.analog.com/en/index.html; ComponentLink2Description: Datasheet; ComponentLink2URL: http://www.analog.com/static/imported-files/data_sheets/AD797.pdf; ComponentLink3Description: Package Specification; ComponentLink3URL: http://www.analog.com/static/imported-files/packages/PKG_PDF/SOIC_Narrow%20(R)/R_8.pdf
footprint ADI-R-8_N (SOIC, 8-Leads, Body 4.9x3.9mm, Pitch 1.27mm, IPC Medium Density)
footprint ADI-R-8_L (SOIC, 8-Leads, Body 4.9x3.9mm, Pitch 1.27mm, IPC High Density)
footprint ADI-R-8_M (SOIC, 8-Leads, Body 4.9x3.9mm, Pitch 1.27mm, IPC Low Density)
pins: 1 OFFSET NULL (in), 2 -IN (in), 3 +IN (in), 4 -VS (power), 5 OFFSET NULL (in), 6 OUT (out), 7 +VS (power), 8 DECOMPENSATION AND DISTORTION NEUTRALIZATION

## AD810AN
designator U?
Single Channel Low Power Operational Amplifier, 80 MHz BW, 1 KV/us SR, Industrial, 8-pin DIP (N-8), Tube; Generic Part Number: AD810; Manufacturer: Analog Devices; PartNumber: AD810AN; Amplifiers Per Package: 1; Input Bias Current: 2uA; Input Offset Voltage: 1.5mV; Iq/Amp: 8mA; Slew Rate: 1KV/us; Small Signal Bandwidth: 80MHz; V Span Max: 36V; V Span Min: 5V; DatasheetVersion: Rev. A; PackageVersion: 070606-A; PackageReference: N-8; PackageDescription: 8-Pin Plastic Dual In-Line Package, Row spacing 7.62 mm, Pitch 2.54 mm; Supplier 1: Digi-Key; Supplier Part Number 1: AD810AN-ND; Mounting Technology: Through Hole; Code_JEDEC: MS-001; ComponentLink1Description: Manufacturer URL; ComponentLink1URL: http://www.analog.com/en/index.html; ComponentLink2Description: Datasheet; ComponentLink2URL: http://www.analog.com/static/imported-files/data_sheets/AD810.pdf; ComponentLink3Description: Package Specification; ComponentLink3URL: http:/www.analog.com/static/imported-files/packages/PKG_PDF/PDIP(N)/N_8.pdf
footprint ADI-N-8 (DIP, 8-Leads, Body 9.59x6.6mm, Pitch 2.54mm)
pins: 1 OFFSET NULL (in), 2 -IN (in), 3 +IN (in), 4 -VS (power), 5 OFFSET NULL (in), 6 OUT (hiz), 7 +VS (power), 8 ~{DISABLE} (in)

## AD810ANZ
designator U?
Single Channel Low Power Operational Amplifier, 80 MHz BW, 1 KV/us SR, Industrial, 8-pin DIP (N-8), Tube; Generic Part Number: AD810; Manufacturer: Analog Devices; PartNumber: AD810ANZ; Amplifiers Per Package: 1; Input Bias Current: 2uA; Input Offset Voltage: 1.5mV; Iq/Amp: 8mA; Slew Rate: 1KV/us; Small Signal Bandwidth: 80MHz; V Span Max: 36V; V Span Min: 5V; DatasheetVersion: Rev. A; PackageVersion: 070606-A; PackageReference: N-8; PackageDescription: 8-Pin Plastic Dual In-Line Package, Row spacing 7.62 mm, Pitch 2.54 mm; Supplier 1: Digi-Key; Supplier Part Number 1: AD810ANZ-ND; Supplier 2: Farnell; Supplier Part Number 2: 9603794; Supplier 3: Newark; Supplier Part Number 3: 19M0933; Mounting Technology: Through Hole; Code_JEDEC: MS-001; ComponentLink1Description: Manufacturer URL; ComponentLink1URL: http://www.analog.com/en/index.html; ComponentLink2Description: Datasheet; ComponentLink2URL: http://www.analog.com/static/imported-files/data_sheets/AD810.pdf; ComponentLink3Description: Package Specification; ComponentLink3URL: http:/www.analog.com/static/imported-files/packages/PKG_PDF/PDIP(N)/N_8.pdf
footprint ADI-N-8 (DIP, 8-Leads, Body 9.59x6.6mm, Pitch 2.54mm)
pins: 1 OFFSET NULL (in), 2 -IN (in), 3 +IN (in), 4 -VS (power), 5 OFFSET NULL (in), 6 OUT (hiz), 7 +VS (power), 8 ~{DISABLE} (in)

## AD810AR
designator U?
Single Channel Low Power Operational Amplifier, 80 MHz BW, 1 KV/us SR, Industrial, 8-pin SOIC (R-8), Tube; Generic Part Number: AD810; Manufacturer: Analog Devices; PartNumber: AD810AR; Amplifiers Per Package: 1; Input Bias Current: 2uA; Input Offset Voltage: 1.5mV; Iq/Amp: 8mA; Slew Rate: 1KV/us; Small Signal Bandwidth: 80MHz; V Span Max: 36V; V Span Min: 5V; DatasheetVersion: Rev. A; PackageVersion: 060506-A; PackageReference: R-8; PackageDescription: 8-Pin Standard Small Outline Package, Body 3.9 x 4.9 mm, Pitch 1.27 mm; Supplier 1: Digi-Key; Supplier Part Number 1: AD810AR-ND; Mounting Technology: Surface Mount; Code_JEDEC: MS-012-AA; ComponentLink1Description: Manufacturer URL; ComponentLink1URL: http://www.analog.com/en/index.html; ComponentLink2Description: Datasheet; ComponentLink2URL: http://www.analog.com/static/imported-files/data_sheets/AD810.pdf; ComponentLink3Description: Package Specification; ComponentLink3URL: http://www.analog.com/static/imported-files/packages/PKG_PDF/SOIC_Narrow%20(R)/R_8.pdf
footprint ADI-R-8_N (SOIC, 8-Leads, Body 4.9x3.9mm, Pitch 1.27mm, IPC Medium Density)
footprint ADI-R-8_L (SOIC, 8-Leads, Body 4.9x3.9mm, Pitch 1.27mm, IPC High Density)
footprint ADI-R-8_M (SOIC, 8-Leads, Body 4.9x3.9mm, Pitch 1.27mm, IPC Low Density)
pins: 1 OFFSET NULL (in), 2 -IN (in), 3 +IN (in), 4 -VS (power), 5 OFFSET NULL (in), 6 OUT (hiz), 7 +VS (power), 8 ~{DISABLE} (in)

## AD810AR-REEL
designator U?
Single Channel Low Power Operational Amplifier, 80 MHz BW, 1 KV/us SR, Industrial, 8-pin SOIC (R-8), Reel; Generic Part Number: AD810; Manufacturer: Analog Devices; PartNumber: AD810AR-REEL; Amplifiers Per Package: 1; Input Bias Current: 2uA; Input Offset Voltage: 1.5mV; Iq/Amp: 8mA; Slew Rate: 1KV/us; Small Signal Bandwidth: 80MHz; V Span Max: 36V; V Span Min: 5V; DatasheetVersion: Rev. A; PackageVersion: 060506-A; PackageReference: R-8; PackageDescription: 8-Pin Standard Small Outline Package, Body 3.9 x 4.9 mm, Pitch 1.27 mm; Supplier 1: Digi-Key; Supplier Part Number 1: AD810AR-REEL-ND; Supplier 2: Newark; Supplier Part Number 2: 09B6451; Mounting Technology: Surface Mount; Code_JEDEC: MS-012-AA; ComponentLink1Description: Manufacturer URL; ComponentLink1URL: http://www.analog.com/en/index.html; ComponentLink2Description: Datasheet; ComponentLink2URL: http://www.analog.com/static/imported-files/data_sheets/AD810.pdf; ComponentLink3Description: Package Specification; ComponentLink3URL: http://www.analog.com/static/imported-files/packages/PKG_PDF/SOIC_Narrow%20(R)/R_8.pdf
footprint ADI-R-8_N (SOIC, 8-Leads, Body 4.9x3.9mm, Pitch 1.27mm, IPC Medium Density)
footprint ADI-R-8_L (SOIC, 8-Leads, Body 4.9x3.9mm, Pitch 1.27mm, IPC High Density)
footprint ADI-R-8_M (SOIC, 8-Leads, Body 4.9x3.9mm, Pitch 1.27mm, IPC Low Density)
pins: 1 OFFSET NULL (in), 2 -IN (in), 3 +IN (in), 4 -VS (power), 5 OFFSET NULL (in), 6 OUT (hiz), 7 +VS (power), 8 ~{DISABLE} (in)

## AD810AR-REEL7
designator U?
Single Channel Low Power Operational Amplifier, 80 MHz BW, 1 KV/us SR, Industrial, 8-pin SOIC (R-8), Reel; Generic Part Number: AD810; Manufacturer: Analog Devices; PartNumber: AD810AR-REEL7; Amplifiers Per Package: 1; Input Bias Current: 2uA; Input Offset Voltage: 1.5mV; Iq/Amp: 8mA; Slew Rate: 1KV/us; Small Signal Bandwidth: 80MHz; V Span Max: 36V; V Span Min: 5V; DatasheetVersion: Rev. A; PackageVersion: 060506-A; PackageReference: R-8; PackageDescription: 8-Pin Standard Small Outline Package, Body 3.9 x 4.9 mm, Pitch 1.27 mm; Supplier 1: Digi-Key; Supplier Part Number 1: AD810AR-REEL7-ND; Supplier 2: Newark; Supplier Part Number 2: 09B6452; Mounting Technology: Surface Mount; Code_JEDEC: MS-012-AA; ComponentLink1Description: Manufacturer URL; ComponentLink1URL: http://www.analog.com/en/index.html; ComponentLink2Description: Datasheet; ComponentLink2URL: http://www.analog.com/static/imported-files/data_sheets/AD810.pdf; ComponentLink3Description: Package Specification; ComponentLink3URL: http://www.analog.com/static/imported-files/packages/PKG_PDF/SOIC_Narrow%20(R)/R_8.pdf
footprint ADI-R-8_N (SOIC, 8-Leads, Body 4.9x3.9mm, Pitch 1.27mm, IPC Medium Density)
footprint ADI-R-8_L (SOIC, 8-Leads, Body 4.9x3.9mm, Pitch 1.27mm, IPC High Density)
footprint ADI-R-8_M (SOIC, 8-Leads, Body 4.9x3.9mm, Pitch 1.27mm, IPC Low Density)
pins: 1 OFFSET NULL (in), 2 -IN (in), 3 +IN (in), 4 -VS (power), 5 OFFSET NULL (in), 6 OUT (hiz), 7 +VS (power), 8 ~{DISABLE} (in)

## AD810ARZ
designator U?
Single Channel Low Power Operational Amplifier, 80 MHz BW, 1 KV/us SR, Industrial, 8-pin SOIC (R-8), Tube; Generic Part Number: AD810; Manufacturer: Analog Devices; PartNumber: AD810ARZ; Amplifiers Per Package: 1; Input Bias Current: 2uA; Input Offset Voltage: 1.5mV; Iq/Amp: 8mA; Slew Rate: 1KV/us; Small Signal Bandwidth: 80MHz; V Span Max: 36V; V Span Min: 5V; DatasheetVersion: Rev. A; PackageVersion: 060506-A; PackageReference: R-8; PackageDescription: 8-Pin Standard Small Outline Package, Body 3.9 x 4.9 mm, Pitch 1.27 mm; Supplier 1: Digi-Key; Supplier Part Number 1: AD810ARZ-ND; Supplier 2: Farnell; Supplier Part Number 2: 1651272; Supplier 3: Newark; Supplier Part Number 3: 59K6365; Mounting Technology: Surface Mount; Code_JEDEC: MS-012-AA; ComponentLink1Description: Manufacturer URL; ComponentLink1URL: http://www.analog.com/en/index.html; ComponentLink2Description: Datasheet; ComponentLink2URL: http://www.analog.com/static/imported-files/data_sheets/AD810.pdf; ComponentLink3Description: Package Specification; ComponentLink3URL: http://www.analog.com/static/imported-files/packages/PKG_PDF/SOIC_Narrow%20(R)/R_8.pdf
footprint ADI-R-8_N (SOIC, 8-Leads, Body 4.9x3.9mm, Pitch 1.27mm, IPC Medium Density)
footprint ADI-R-8_L (SOIC, 8-Leads, Body 4.9x3.9mm, Pitch 1.27mm, IPC High Density)
footprint ADI-R-8_M (SOIC, 8-Leads, Body 4.9x3.9mm, Pitch 1.27mm, IPC Low Density)
pins: 1 OFFSET NULL (in), 2 -IN (in), 3 +IN (in), 4 -VS (power), 5 OFFSET NULL (in), 6 OUT (hiz), 7 +VS (power), 8 ~{DISABLE} (in)